# Altium schematic symbol library HT7133.SchLib: 1 symbol
Pins are listed as number, name and electrical type; pins without a type are passive.

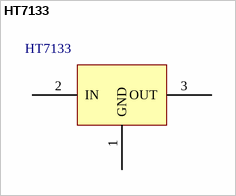
[diagram p0: symbol HT7133]

## HT7133
designator HT7133  (value not drawn)
footprint HT7133
pins: 1 GND, 2 IN, 3 OUT